# Altium schematic symbol library SCH - POWER - LINEAR VREG - TI LP38690DT-1.8.SchLib: 1 symbol
Pins are listed as number, name and electrical type; pins without a type are passive.

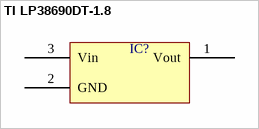
[diagram p0: symbol TI LP38690DT-1.8]

## TI LP38690DT-1.8
designator IC?  (value not drawn)
pins: 1 Vout, 2 GND, 3 Vin